# EAGLE library part PCA9536 (library bschulz)
PCA9536 - I2C I/O Expander, 4 bit, 5V tollerant Characteristics: Vcc: 2.3V ~ 5.5V IOut: >10mA IQ: 1μA Operating Temperature: -40°C to 85°C Internal Pullups Digikey: 296-20952-1-ND (DGK) <https://www.digikey.com/product-detail/en/texas-instruments/PCA9536DGKR/296-20952-1-ND/1216922> 568-4079-1-ND (SON) <https://www.digikey.com/en/products/detail/nxp-usa-inc/PCA9536TK-118/1300978> *Datasheet for PCA9536TK does not explicitly specify connection of exposed pad, but using information from NXP engineering bulletin EB806 <https://www.nxp.com/docs/en/engineering-bulletin/EB806.pdf> for justification for connecting EP to GND. See page 4 "Freescale [NXP] recommends electrically connecting the exposed pad of QFN and DFN devices to MCU ground..."
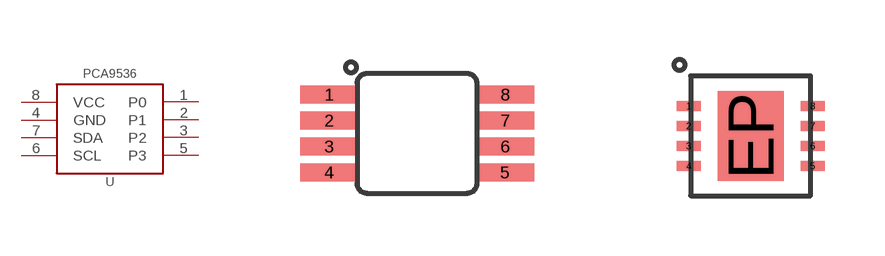
[diagram p124: symbol with the pads of DGK_S-PDSO-G8; footprints DGK_S-PDSO-G8, DFN_8_3X3]

Designator prefix U

## PCA9536VSSOP (DIGIKEY: 296-20952-1-ND; MF: TI; MPN: PCA9536DGKR)  [DGK_S-PDSO-G8]
1  P0
2  P1
3  P2
4  GND  pwr
5  P3
6  SCL  in
7  SDA
8  VCC  pwr

## PCA9536DFN (DIGIKEY: 568-4079-1-ND; MF: NXP; MPN: PCA9536TK,118)  [DFN_8_3X3]
1  P0
2  P1
3  P2
4  GND  pwr
5  P3
6  SCL  in
7  SDA
8  VCC  pwr
EP  GND  pwr

## Footprint DGK_S-PDSO-G8 (pad centres in mm)
smd 1.45 x 0.45: 1 -2.2,0.975; 2 -2.2,0.325; 3 -2.2,-0.325; 4 -2.2,-0.975; 5 2.2,-0.975; 6 2.2,-0.325; 7 2.2,0.325; 8 2.2,0.975

## Footprint DFN_8_3X3 (pad centres in mm)
DFN, 8 pos, 3x3mm, 0.5mm pitch Datasheet <https://www.nxp.com/docs/en/package-information/SOT908-1.pdf>
smd 0.6 x 0.25: 1 -1.55,0.75; 2 -1.55,0.25; 3 -1.55,-0.25; 4 -1.55,-0.75; 5 1.55,-0.75; 6 1.55,-0.25; 7 1.55,0.25; 8 1.55,0.75
smd 1.65 x 2.25: EP 0,0